# Altium schematic symbol library Cypress USB Controllers.SchLib: 169 symbols (part 9 of 15)
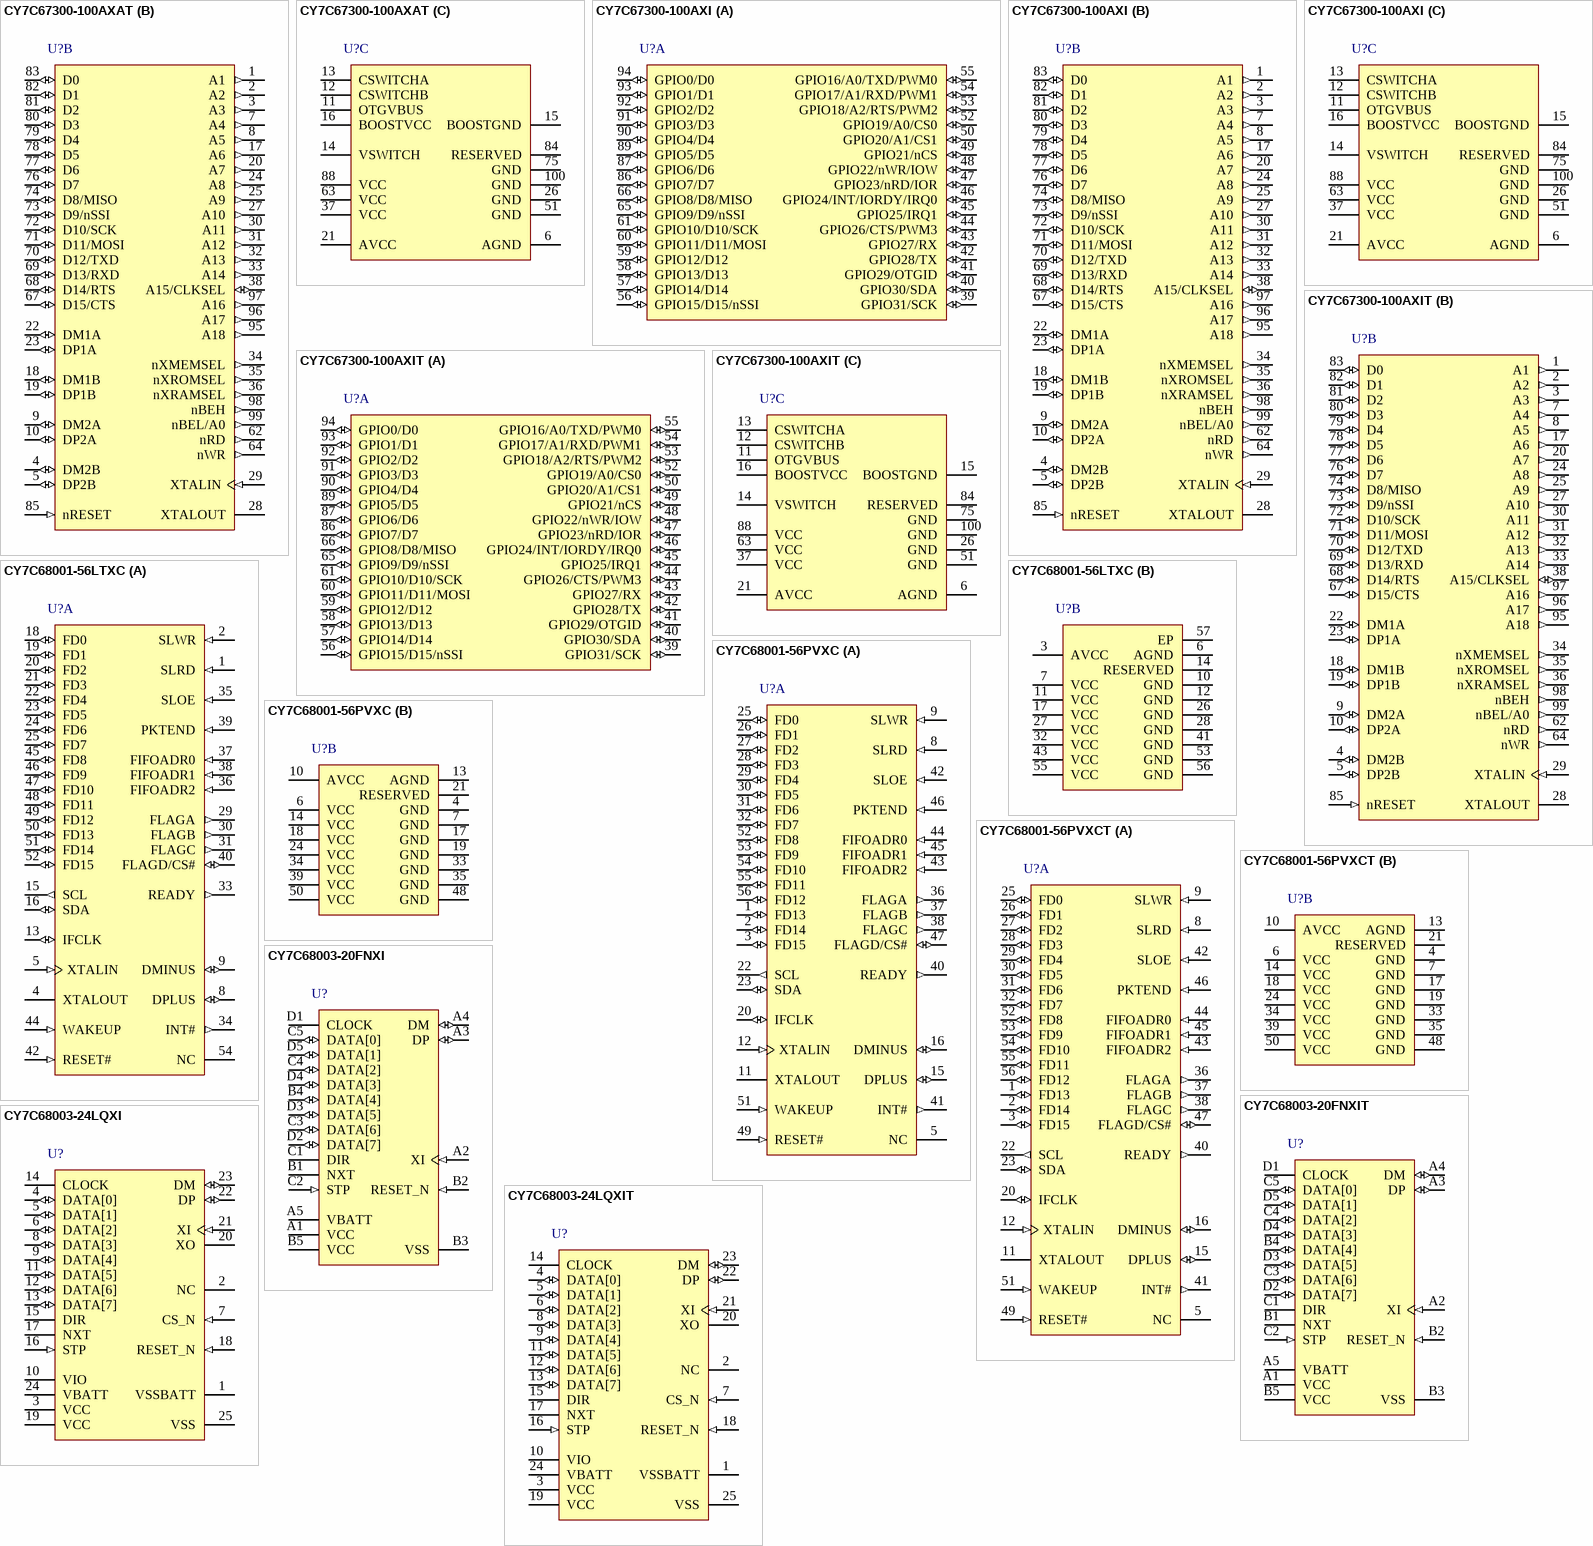
[diagram p30: symbols CY7C67300-100AXAT to CY7C68003-24LQXIT]

## CY7C68001-56PVXC
designator U?
EZ-USB SX2(TM) High Speed USB Interface Device, 3 to 3.6 V, 0 to 70 degC, 56-Pin SSOP (PVX56), Tube; Manufacturer: Cypress; PartNumber: CY7C68001-56PVXC; Max. Operating Voltage (V): 3.6; Min. Operating Voltage (V): 3; Populated: Yes; DatasheetVersion: Rev. *Q; PackageVersion: Rev. *F, 08/2012; PackageReference: PVX56; PackageDescription: 56-Pin Shrunk Small Outline Package, Body 7.506 x 18.415 mm, Pitch 0.635 mm; Supplier 1: Digi-Key; Supplier Part Number 1: 428-1864-ND; Max. Operating Temp. (degreesC): 70; Min. Operating Temp. (degreesC): 0; Packing: Tube; RoHS: Pb-Free; Mounting Technology: Surface Mount; ComponentLink1Description: Manufacturer URL; ComponentLink1URL: http://www.cypress.com/; ComponentLink2Description: Datasheet; ComponentLink2URL: http://www.cypress.com/?docID=47166; ComponentLink3Description: Package Specification; ComponentLink3URL: http://www.cypress.com/?docID=39259
footprint CYP-PVX56_N (SOP, 56-Leads, Body 18.415x7.506mm, Pitch 0.635mm , IPC Medium Density)
footprint CYP-PVX56_L (SOP, 56-Leads, Body 18.415x7.506mm, Pitch 0.635mm, IPC High Density)
footprint CYP-PVX56_M (SOP, 56-Leads, Body 18.415x7.506mm, Pitch 0.635mm, IPC Low Density)
part A pins: 1 FD13 (io) "FD[13] is the bidirectional FIFO data bus.", 2 FD14 (io) "FD[14] is the bidirectional FIFO data bus.", 3 FD15 (io) "FD[15] is the bidirectional FIFO data bus.", 5 NC "No Connect. This pin must be left unconnected.", 8 SLRD (in) "SLRD is the input-only read strobe with programmable polarity (POLAR.3) for the slave FIFOs connected to FD[7:0] or FD[15:0].", 9 SLWR (in) "SLWR is the input-only write strobe with programmable polarity (POLAR.2) for the slave FIFOs connected to FD[7:0] or FD[15:0].", 11 XTALOUT "Crystal Output. Connect this signal to a 24 MHz parallel-resonant, fundamental mode crystal and 20 pF capacitor to GND. If an external clock is used to drive XTALIN, leave this pin open.", 12 XTALIN (in) "Crystal Input. Connect this signal to a 24 MHz parallel-resonant, fundamental mode crystal and 20 pF capacitor to GND. It is also correct to drive XTALIN with an external 24 MHz square wave derived from another clock source.", 15 DPLUS (io) "USB D+ Signal. Connect to the USB D+ signal.", 16 DMINUS (io) "USB D- Signal. Connect to the USB D- signal.", 20 IFCLK (io) "Interface Clock, used for synchronously clocking data into or out of the slave FIFOs. IFCLK also serves as a timing reference for all slave FIFO control signals. When using the internal clock reference (IFCONFIG.7=1) the (See Datasheet)", 22 SCL (out) "I2C Clock. Connect to VCC with a 2.2 K-10 Kohm resistor, even if no I2C EEPROM is attached.", 23 SDA (io) "I2C Data. Connect to VCC with a 2.2K-10 Kohm resistor, even if no I2C EEPROM is attached.", 25 FD0 (io) "FD[0] is the bidirectional FIFO/Command data bus.", 26 FD1 (io) "FD[1] is the bidirectional FIFO/Command data bus.", 27 FD2 (io) "FD[2] is the bidirectional FIFO/Command data bus.", 28 FD3 (io) "FD[3] is the bidirectional FIFO/Command data bus.", 29 FD4 (io) "FD[4] is the bidirectional FIFO/Command data bus.", 30 FD5 (io) "FD[5] is the bidirectional FIFO/Command data bus.", 31 FD6 (io) "FD[6] is the bidirectional FIFO/Command data bus.", 32 FD7 (io) "FD[7] is the bidirectional FIFO/Command data bus.", 36 FLAGA (out) "FLAGA is a programmable slave-FIFO output status flag signal. Defaults to PF for the FIFO selected by the FIFOADR[2:0] pins.", 37 FLAGB (out) "FLAGB is a programmable slave-FIFO output status flag signal. Defaults to FULL for the FIFO selected by the FIFOADR[2:0] pins.", 38 FLAGC (out) "FLAGC is a programmable slave-FIFO output status flag signal. Defaults to EMPTY for the FIFO selected by the FIFOADR[2:0] pins.", 40 READY (out) "READY is an output-only ready that gates external command reads and writes. Active High.", 41 INT# (out) "INT# is an output-only external interrupt signal. Active Low.", 42 SLOE (in) "SLOE is an input-only output enable with programmable polarity (POLAR.4) for the slave FIFOs connected to FD[7:0] or FD[15:0].", 43 FIFOADR2 (in) "FIFOADR2 is an input-only address select for the slave FIFOs connected to FD[7:0] or FD[15:0].", 44 FIFOADR0 (in) "FIFOADR0 is an input-only address select for the slave FIFOs connected to FD[7:0] or FD[15:0].", 45 FIFOADR1 (in) "FIFOADR1 is an input-only address select for the slave FIFOs connected to FD[7:0] or FD[15:0].", 46 PKTEND (in) "PKTEND is an input-only packet end with programmable polarity (POLAR.5) for the slave FIFOs connected to FD[7:0] or FD[15:0].", 47 FLAGD/CS# (io) "FLAGD is a programmable slave-FIFO output status flag signal. CS# is a master chip select (default).", 49 RESET# (in) "Active LOW Reset. Resets the entire chip. This pin is normally tied to VCC through a 100-K resistor, and to GND through a 0.1-?F capacitor.", 51 WAKEUP (in) "USB Wakeup. If the SX2 is in suspend, asserting this pin starts up the oscillator and interrupts the SX2 to allow it to exit the suspend mode. During normal operation, holding WAKEUP asserted inhibits the SX2 chip from (See Datasheet)", 52 FD8 (io) "FD[8] is the bidirectional FIFO data bus.", 53 FD9 (io) "FD[9] is the bidirectional FIFO data bus.", 54 FD10 (io) "FD[10] is the bidirectional FIFO data bus.", 55 FD11 (io) "FD[11] is the bidirectional FIFO data bus.", 56 FD12 (io) "FD[12] is the bidirectional FIFO data bus."
part B pins: 4 GND (power) "Connect to ground.", 6 VCC (power) "VCC. Connect to 3.3 V power source.", 7 GND (power) "Connect to ground.", 10 AVCC (power) "Analog VCC. This signal provides power to the analog section of the chip.", 13 AGND (power) "Analog Ground. Connect to ground with as short a path as possible.", 14 VCC (power) "VCC. Connect to 3.3 V power source.", 17 GND (power) "Connect to ground.", 18 VCC (power) "VCC. Connect to 3.3 V power source.", 19 GND (power) "Connect to ground.", 21 RESERVED (power) "Reserved. Must be connected to ground.", 24 VCC (power) "VCC. Connect to 3.3 V power source.", 33 GND (power) "Connect to ground.", 34 VCC (power) "VCC. Connect to 3.3 V power source.", 35 GND (power) "Connect to ground.", 39 VCC (power) "VCC. Connect to 3.3 V power source.", 48 GND (power) "Connect to ground.", 50 VCC (power) "VCC. Connect to 3.3 V power source."

## CY7C68001-56PVXCT
designator U?
EZ-USB SX2(TM) High Speed USB Interface Device, 3 to 3.6 V, 0 to 70 degC, 56-Pin SSOP (PVX56), Tape and Reel; Manufacturer: Cypress; PartNumber: CY7C68001-56PVXCT; Max. Operating Voltage (V): 3.6; Min. Operating Voltage (V): 3; Populated: Yes; DatasheetVersion: Rev. *Q; PackageVersion: Rev. *F, 08/2012; PackageReference: PVX56; PackageDescription: 56-Pin Shrunk Small Outline Package, Body 7.506 x 18.415 mm, Pitch 0.635 mm; Supplier 1: Digi-Key; Supplier Part Number 1: CY7C68001-56PVXCT-ND; Max. Operating Temp. (degreesC): 70; Min. Operating Temp. (degreesC): 0; Packing: Tape and Reel; RoHS: Pb-Free; Mounting Technology: Surface Mount; ComponentLink1Description: Manufacturer URL; ComponentLink1URL: http://www.cypress.com/; ComponentLink2Description: Datasheet; ComponentLink2URL: http://www.cypress.com/?docID=47166; ComponentLink3Description: Package Specification; ComponentLink3URL: http://www.cypress.com/?docID=39259
footprint CYP-PVX56_N (SOP, 56-Leads, Body 18.415x7.506mm, Pitch 0.635mm , IPC Medium Density)
footprint CYP-PVX56_L (SOP, 56-Leads, Body 18.415x7.506mm, Pitch 0.635mm, IPC High Density)
footprint CYP-PVX56_M (SOP, 56-Leads, Body 18.415x7.506mm, Pitch 0.635mm, IPC Low Density)
part A pins: 1 FD13 (io) "FD[13] is the bidirectional FIFO data bus.", 2 FD14 (io) "FD[14] is the bidirectional FIFO data bus.", 3 FD15 (io) "FD[15] is the bidirectional FIFO data bus.", 5 NC "No Connect. This pin must be left unconnected.", 8 SLRD (in) "SLRD is the input-only read strobe with programmable polarity (POLAR.3) for the slave FIFOs connected to FD[7:0] or FD[15:0].", 9 SLWR (in) "SLWR is the input-only write strobe with programmable polarity (POLAR.2) for the slave FIFOs connected to FD[7:0] or FD[15:0].", 11 XTALOUT "Crystal Output. Connect this signal to a 24 MHz parallel-resonant, fundamental mode crystal and 20 pF capacitor to GND. If an external clock is used to drive XTALIN, leave this pin open.", 12 XTALIN (in) "Crystal Input. Connect this signal to a 24 MHz parallel-resonant, fundamental mode crystal and 20 pF capacitor to GND. It is also correct to drive XTALIN with an external 24 MHz square wave derived from another clock source.", 15 DPLUS (io) "USB D+ Signal. Connect to the USB D+ signal.", 16 DMINUS (io) "USB D- Signal. Connect to the USB D- signal.", 20 IFCLK (io) "Interface Clock, used for synchronously clocking data into or out of the slave FIFOs. IFCLK also serves as a timing reference for all slave FIFO control signals. When using the internal clock reference (IFCONFIG.7=1) the (See Datasheet)", 22 SCL (out) "I2C Clock. Connect to VCC with a 2.2 K-10 Kohm resistor, even if no I2C EEPROM is attached.", 23 SDA (io) "I2C Data. Connect to VCC with a 2.2K-10 Kohm resistor, even if no I2C EEPROM is attached.", 25 FD0 (io) "FD[0] is the bidirectional FIFO/Command data bus.", 26 FD1 (io) "FD[1] is the bidirectional FIFO/Command data bus.", 27 FD2 (io) "FD[2] is the bidirectional FIFO/Command data bus.", 28 FD3 (io) "FD[3] is the bidirectional FIFO/Command data bus.", 29 FD4 (io) "FD[4] is the bidirectional FIFO/Command data bus.", 30 FD5 (io) "FD[5] is the bidirectional FIFO/Command data bus.", 31 FD6 (io) "FD[6] is the bidirectional FIFO/Command data bus.", 32 FD7 (io) "FD[7] is the bidirectional FIFO/Command data bus.", 36 FLAGA (out) "FLAGA is a programmable slave-FIFO output status flag signal. Defaults to PF for the FIFO selected by the FIFOADR[2:0] pins.", 37 FLAGB (out) "FLAGB is a programmable slave-FIFO output status flag signal. Defaults to FULL for the FIFO selected by the FIFOADR[2:0] pins.", 38 FLAGC (out) "FLAGC is a programmable slave-FIFO output status flag signal. Defaults to EMPTY for the FIFO selected by the FIFOADR[2:0] pins.", 40 READY (out) "READY is an output-only ready that gates external command reads and writes. Active High.", 41 INT# (out) "INT# is an output-only external interrupt signal. Active Low.", 42 SLOE (in) "SLOE is an input-only output enable with programmable polarity (POLAR.4) for the slave FIFOs connected to FD[7:0] or FD[15:0].", 43 FIFOADR2 (in) "FIFOADR2 is an input-only address select for the slave FIFOs connected to FD[7:0] or FD[15:0].", 44 FIFOADR0 (in) "FIFOADR0 is an input-only address select for the slave FIFOs connected to FD[7:0] or FD[15:0].", 45 FIFOADR1 (in) "FIFOADR1 is an input-only address select for the slave FIFOs connected to FD[7:0] or FD[15:0].", 46 PKTEND (in) "PKTEND is an input-only packet end with programmable polarity (POLAR.5) for the slave FIFOs connected to FD[7:0] or FD[15:0].", 47 FLAGD/CS# (io) "FLAGD is a programmable slave-FIFO output status flag signal. CS# is a master chip select (default).", 49 RESET# (in) "Active LOW Reset. Resets the entire chip. This pin is normally tied to VCC through a 100-K resistor, and to GND through a 0.1-?F capacitor.", 51 WAKEUP (in) "USB Wakeup. If the SX2 is in suspend, asserting this pin starts up the oscillator and interrupts the SX2 to allow it to exit the suspend mode. During normal operation, holding WAKEUP asserted inhibits the SX2 chip from (See Datasheet)", 52 FD8 (io) "FD[8] is the bidirectional FIFO data bus.", 53 FD9 (io) "FD[9] is the bidirectional FIFO data bus.", 54 FD10 (io) "FD[10] is the bidirectional FIFO data bus.", 55 FD11 (io) "FD[11] is the bidirectional FIFO data bus.", 56 FD12 (io) "FD[12] is the bidirectional FIFO data bus."
part B pins: 4 GND (power) "Connect to ground.", 6 VCC (power) "VCC. Connect to 3.3 V power source.", 7 GND (power) "Connect to ground.", 10 AVCC (power) "Analog VCC. This signal provides power to the analog section of the chip.", 13 AGND (power) "Analog Ground. Connect to ground with as short a path as possible.", 14 VCC (power) "VCC. Connect to 3.3 V power source.", 17 GND (power) "Connect to ground.", 18 VCC (power) "VCC. Connect to 3.3 V power source.", 19 GND (power) "Connect to ground.", 21 RESERVED (power) "Reserved. Must be connected to ground.", 24 VCC (power) "VCC. Connect to 3.3 V power source.", 33 GND (power) "Connect to ground.", 34 VCC (power) "VCC. Connect to 3.3 V power source.", 35 GND (power) "Connect to ground.", 39 VCC (power) "VCC. Connect to 3.3 V power source.", 48 GND (power) "Connect to ground.", 50 VCC (power) "VCC. Connect to 3.3 V power source."

## CY7C68003-20FNXI
designator U?
MoBL-USB(TM) TX2UL USB 2.0 ULPI Transceiver, 1.8 to 3.3 V, -40 to 85 degC, 20-Pin WLCSP (FNX20), Tray; Manufacturer: Cypress; PartNumber: CY7C68003-20FNXI; Max. Operating Voltage (V): 3.3; Min. Operating Voltage (V): 1.8; Populated: Yes; DatasheetVersion: Rev. *M; PackageVersion: Rev. *C; PackageReference: FNX20; PackageDescription: 20-Ball WLCSP, Body 2.137 x 1.761 mm, Pitch 0.4 mm; Supplier 1: Digi-Key; Supplier Part Number 1: CY7C68003-20FNXI-ND; Max. Operating Temp. (degreesC): 85; Min. Operating Temp. (degreesC): -40; Packing: Tray; RoHS: Pb-Free; Mounting Technology: Surface Mount; Code_JEDEC: Publication 95; ComponentLink1Description: Manufacturer URL; ComponentLink1URL: http://www.cypress.com/; ComponentLink2Description: Datasheet; ComponentLink2URL: http://www.cypress.com/?docID=48080; ComponentLink3Description: Package Specification; ComponentLink3URL: http://www.cypress.com/?docID=48080
footprint CYP-FNX20 (BGA, 20-Balls, Body 2.14x1.76mm, Pitch 0.4mm)
pins: A1 VCC (power) "Low voltage supply for the digital core and I/O", A2 XI (in) "LVCMOS single ended clock of frequency 13, 19.2, 24, or 26 MHz", A3 DP (io) "USB D-plus signal", A4 DM (io) "USB D-minus signal", A5 VBATT (power) "High voltage supply for USB", B1 NXT (hiz) "ULPI next signal", B2 RESET_N (in) "Global reset. When RESET_N is asserted during the VCC power on, TX2UL enters  configuration mode. During normal operation mode, asserting RESET_N resets the  TX2UL and enter into the power saving mode.", B3 VSS (power) "Common ground", B4 DATA[4] (io) "ULPI data to/from link", B5 VCC (power) "Low voltage supply for the digital core and I/O", C1 DIR (hiz) "ULPI direction", C2 STP (in) "ULPI stop signal", C3 DATA[6] (io) "ULPI data to/from link", C4 DATA[2] (io) "ULPI data to/from link", C5 DATA[0] (io) "ULPI data to/from link", D1 CLOCK (hiz) "ULPI clock", D2 DATA[7] (io) "ULPI data to/from link", D3 DATA[5] (io) "ULPI data to/from link", D4 DATA[3] (io) "ULPI data to/from link", D5 DATA[1] (io) "ULPI data to/from link"

## CY7C68003-20FNXIT
designator U?
MoBL-USB(TM) TX2UL USB 2.0 ULPI Transceiver, 1.8 to 3.3 V, -40 to 85 degC, 20-Pin WLCSP (FNX20), Tape and Reel; Manufacturer: Cypress; PartNumber: CY7C68003-20FNXIT; Max. Operating Voltage (V): 3.3; Min. Operating Voltage (V): 1.8; Populated: Yes; DatasheetVersion: Rev. *M; PackageVersion: Rev. *C; PackageReference: FNX20; PackageDescription: 20-Ball WLCSP, Body 2.137 x 1.761 mm, Pitch 0.4 mm; Supplier 1: Digi-Key; Supplier Part Number 1: CY7C68003-20FNXIT-ND; Max. Operating Temp. (degreesC): 85; Min. Operating Temp. (degreesC): -40; Packing: Tape and Reel; RoHS: Pb-Free; Mounting Technology: Surface Mount; Code_JEDEC: Publication 95; ComponentLink1Description: Manufacturer URL; ComponentLink1URL: http://www.cypress.com/; ComponentLink2Description: Datasheet; ComponentLink2URL: http://www.cypress.com/?docID=48080; ComponentLink3Description: Package Specification; ComponentLink3URL: http://www.cypress.com/?docID=48080
footprint CYP-FNX20 (BGA, 20-Balls, Body 2.14x1.76mm, Pitch 0.4mm)
pins: A1 VCC (power) "Low voltage supply for the digital core and I/O", A2 XI (in) "LVCMOS single ended clock of frequency 13, 19.2, 24, or 26 MHz", A3 DP (io) "USB D-plus signal", A4 DM (io) "USB D-minus signal", A5 VBATT (power) "High voltage supply for USB", B1 NXT (hiz) "ULPI next signal", B2 RESET_N (in) "Global reset. When RESET_N is asserted during the VCC power on, TX2UL enters  configuration mode. During normal operation mode, asserting RESET_N resets the  TX2UL and enter into the power saving mode.", B3 VSS (power) "Common ground", B4 DATA[4] (io) "ULPI data to/from link", B5 VCC (power) "Low voltage supply for the digital core and I/O", C1 DIR (hiz) "ULPI direction", C2 STP (in) "ULPI stop signal", C3 DATA[6] (io) "ULPI data to/from link", C4 DATA[2] (io) "ULPI data to/from link", C5 DATA[0] (io) "ULPI data to/from link", D1 CLOCK (hiz) "ULPI clock", D2 DATA[7] (io) "ULPI data to/from link", D3 DATA[5] (io) "ULPI data to/from link", D4 DATA[3] (io) "ULPI data to/from link", D5 DATA[1] (io) "ULPI data to/from link"

## CY7C68003-24LQXI
designator U?
MoBL-USB(TM) TX2UL USB 2.0 ULPI Transceiver, 1.8 to 3.3 V, -40 to 85 degC, 24-Pin QFN (LQX24), Tray; Manufacturer: Cypress; PartNumber: CY7C68003-24LQXI; Max. Operating Voltage (V): 3.3; Min. Operating Voltage (V): 1.8; Populated: Yes; DatasheetVersion: Rev. *M; PackageVersion: Rev. *E; PackageReference: LQX24; PackageDescription: 24-Pin QFN (4 x 4 x 0.55 mm) LQ24A 2.65 x 2.65 E-Pad (Sawn); Supplier 1: Digi-Key; Supplier Part Number 1: CY7C68003-24LQXI-ND; Max. Operating Temp. (degreesC): 85; Min. Operating Temp. (degreesC): -40; Packing: Tray; RoHS: Pb-Free; Mounting Technology: Surface Mount; Code_JEDEC: MO-248; ComponentLink1Description: Manufacturer URL; ComponentLink1URL: http://www.cypress.com/; ComponentLink2Description: Datasheet; ComponentLink2URL: http://www.cypress.com/?docID=48080; ComponentLink3Description: Package Specification; ComponentLink3URL: http://www.cypress.com/?docID=40402
footprint CYP-LQX24_N (QFN, 24-Leads, Body 4x4mm, Pitch 0.5mm, Thermal Pad 2.65x2.65mm, IPC Medium Density)
footprint CYP-LQX24_L (QFN, 24-Leads, Body 4x4mm, Pitch 0.5mm, Thermal Pad 2.65x2.65mm, IPC High Density)
footprint CYP-LQX24_M (QFN, 24-Leads, Body 4x4mm, Pitch 0.5mm, Thermal Pad 2.65x2.65mm, IPC Low Density)
pins: 1 VSSBATT (power) "USB ground", 2 NC "No connect", 3 VCC (power) "Low voltage supply for the digital core", 4 DATA[0] (io) "ULPI data to/from link", 5 DATA[1] (io) "ULPI data to/from link", 6 DATA[2] (io) "ULPI data to/from link", 7 CS_N (in) "When CS_N is de-asserted, all pins at ULPI interface are tristated", 8 DATA[3] (io) "ULPI data to/from link", 9 DATA[4] (io) "ULPI data to/from link", 10 VIO (power) "Power for multi-range I/Os", 11 DATA[5] (io) "ULPI data to/from link", 12 DATA[6] (io) "ULPI data to/from link", 13 DATA[7] (io) "ULPI data to/from link", 14 CLOCK (hiz) "ULPI clock", 15 DIR (hiz) "ULPI direction", 16 STP (in) "ULPI stop signal", 17 NXT (hiz) "ULPI next signal", 18 RESET_N (in) "Device chip global reset. When RESET_N is asserted, TX2UL is in reset and enters into the power saving mode.", 19 VCC (power) "Low voltage supply for the digital core", 20 XO "Crystal", 21 XI (in) "Crystal or LVCMOS single ended clock of frequency 13, 19.2, 24, or 26 MHz", 22 DP (io) "USB D-plus signal", 23 DM (io) "USB D-minus signal", 24 VBATT (power) "High voltage supply for USB", 25 VSS (power) "Digital ground (core and I/O)"

## CY7C68003-24LQXIT
designator U?
MoBL-USB(TM) TX2UL USB 2.0 ULPI Transceiver, 1.8 to 3.3 V, -40 to 85 degC, 24-Pin QFN (LQX24), Tape and Reel; Manufacturer: Cypress; PartNumber: CY7C68003-24LQXIT; Max. Operating Voltage (V): 3.3; Min. Operating Voltage (V): 1.8; Populated: Yes; DatasheetVersion: Rev. *M; PackageVersion: Rev. *E; PackageReference: LQX24; PackageDescription: 24-Pin QFN (4 x 4 x 0.55 mm) LQ24A 2.65 x 2.65 E-Pad (Sawn); Supplier 1: Digi-Key; Supplier Part Number 1: CY7C68003-24LQXIT-ND; Max. Operating Temp. (degreesC): 85; Min. Operating Temp. (degreesC): -40; Packing: Tape and Reel; RoHS: Pb-Free; Mounting Technology: Surface Mount; Code_JEDEC: MO-248; ComponentLink1Description: Manufacturer URL; ComponentLink1URL: http://www.cypress.com/; ComponentLink2Description: Datasheet; ComponentLink2URL: http://www.cypress.com/?docID=48080; ComponentLink3Description: Package Specification; ComponentLink3URL: http://www.cypress.com/?docID=40402
footprint CYP-LQX24_N (QFN, 24-Leads, Body 4x4mm, Pitch 0.5mm, Thermal Pad 2.65x2.65mm, IPC Medium Density)
footprint CYP-LQX24_L (QFN, 24-Leads, Body 4x4mm, Pitch 0.5mm, Thermal Pad 2.65x2.65mm, IPC High Density)
footprint CYP-LQX24_M (QFN, 24-Leads, Body 4x4mm, Pitch 0.5mm, Thermal Pad 2.65x2.65mm, IPC Low Density)
pins: 1 VSSBATT (power) "USB ground", 2 NC "No connect", 3 VCC (power) "Low voltage supply for the digital core", 4 DATA[0] (io) "ULPI data to/from link", 5 DATA[1] (io) "ULPI data to/from link", 6 DATA[2] (io) "ULPI data to/from link", 7 CS_N (in) "When CS_N is de-asserted, all pins at ULPI interface are tristated", 8 DATA[3] (io) "ULPI data to/from link", 9 DATA[4] (io) "ULPI data to/from link", 10 VIO (power) "Power for multi-range I/Os", 11 DATA[5] (io) "ULPI data to/from link", 12 DATA[6] (io) "ULPI data to/from link", 13 DATA[7] (io) "ULPI data to/from link", 14 CLOCK (hiz) "ULPI clock", 15 DIR (hiz) "ULPI direction", 16 STP (in) "ULPI stop signal", 17 NXT (hiz) "ULPI next signal", 18 RESET_N (in) "Device chip global reset. When RESET_N is asserted, TX2UL is in reset and enters into the power saving mode.", 19 VCC (power) "Low voltage supply for the digital core", 20 XO "Crystal", 21 XI (in) "Crystal or LVCMOS single ended clock of frequency 13, 19.2, 24, or 26 MHz", 22 DP (io) "USB D-plus signal", 23 DM (io) "USB D-minus signal", 24 VBATT (power) "High voltage supply for USB", 25 VSS (power) "Digital ground (core and I/O)"

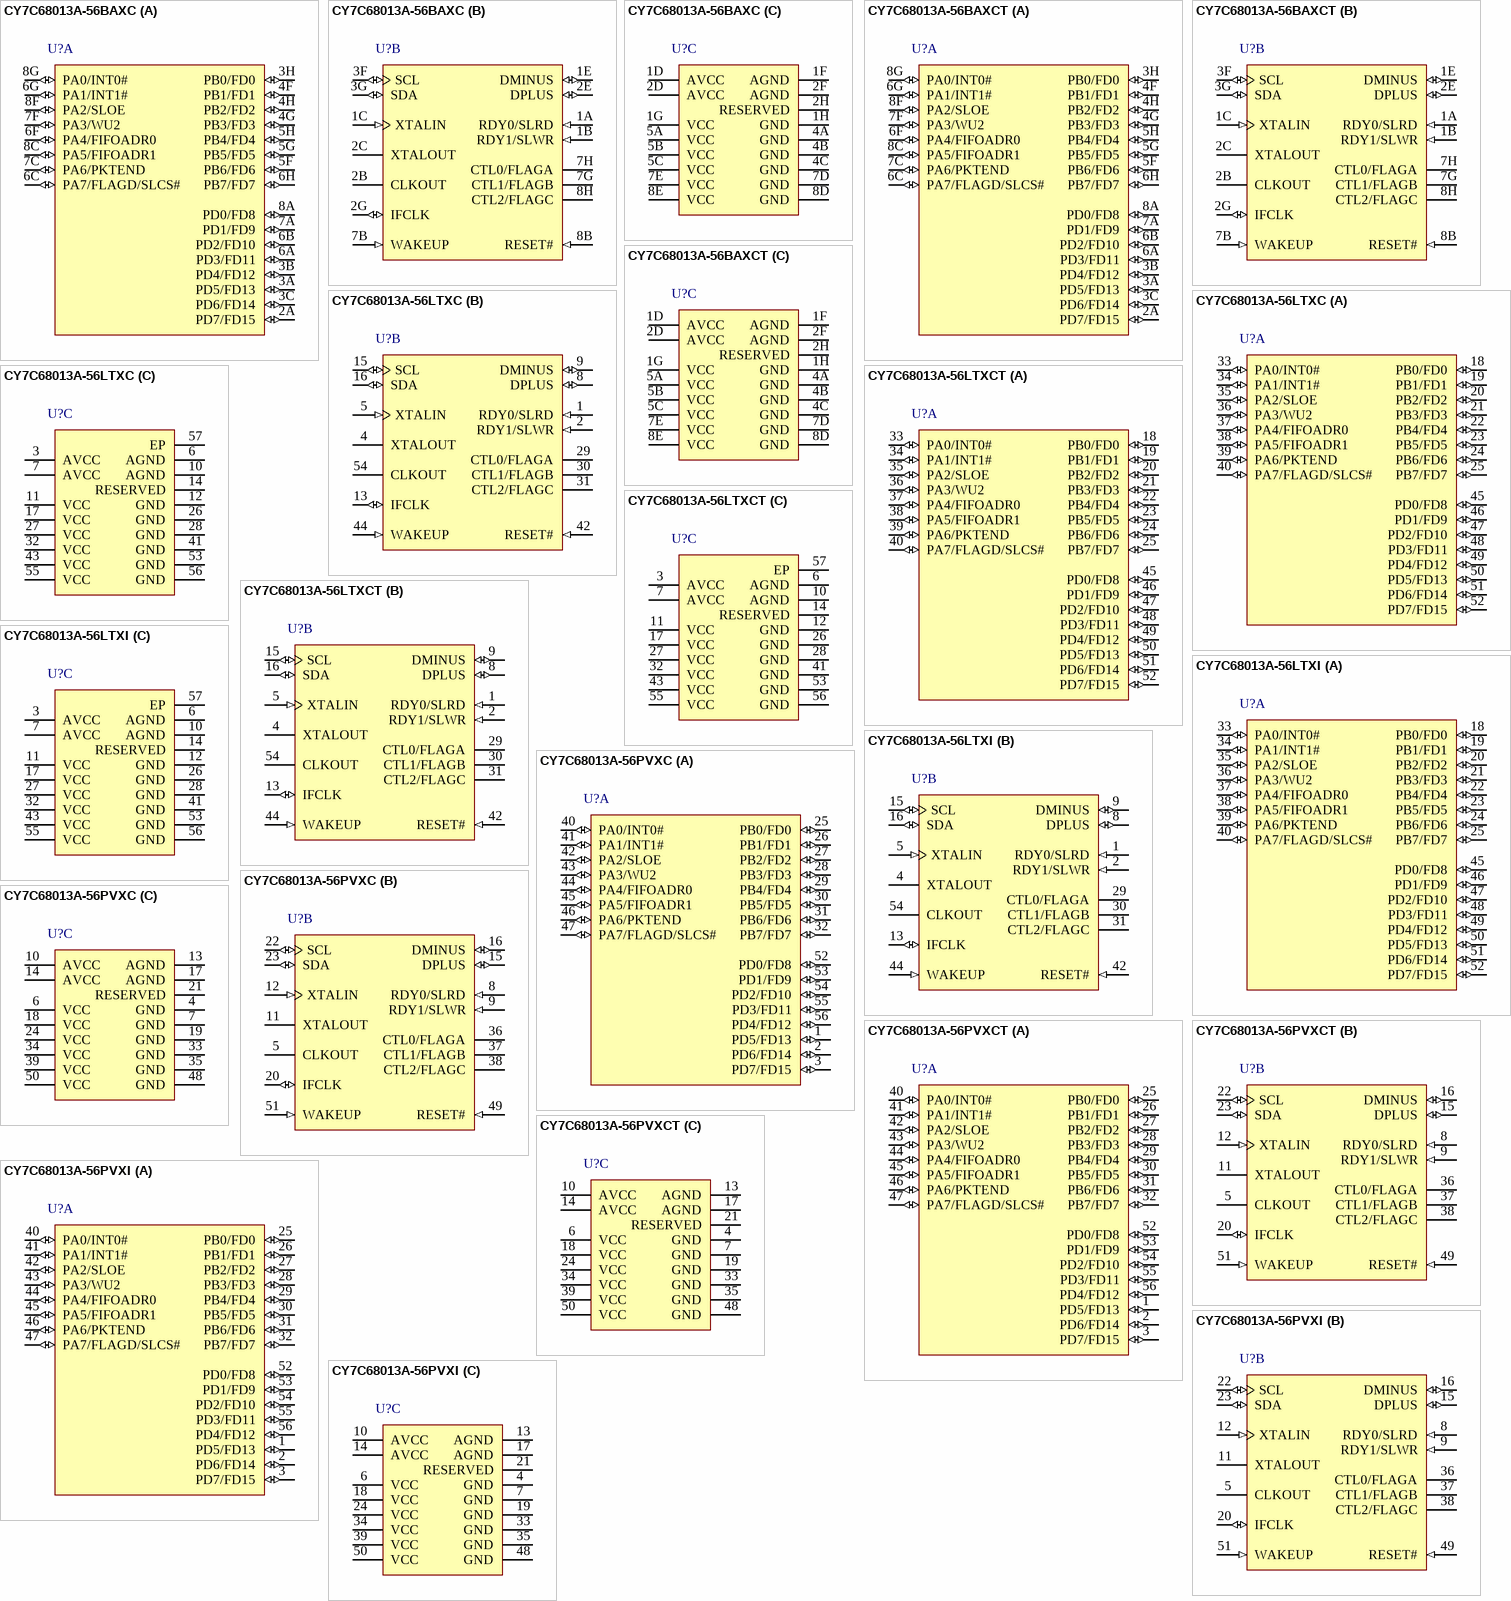
[diagram p9: symbols CY7C68013A-56BAXC to CY7C68013A-56PVXI]

## CY7C68013A-56BAXC
designator U?
EZ-USB(R) FX2LP(TM) USB Microcontroller High-Speed USB Peripheral Controller, 16 KB, 24 I/Os, 3 to 3.6 V, 0 to 70 degC, 56-Pin VFBGA (BAX56), Tray; Manufacturer: Cypress; PartNumber: CY7C68013A-56BAXC; Max. Operating Voltage (V): 3.6; Memory Architecture: RAM; Memory Size (KB): 16; Min. Operating Voltage (V): 3; No. of I/Os: 24; Populated: Yes; DatasheetVersion: Rev. *W; PackageVersion: Rev. *B, 09/2005; PackageReference: BAX56; PackageDescription: 56-Ball FBGA, Body 5 x 5 mm, Pitch 0.5 mm; Supplier 1: Digi-Key; Supplier Part Number 1: 428-2264-ND; CPU Core: Enhanced 8051; Max. Operating Temp. (degreesC): 70; Min. Operating Temp. (degreesC): 0; Packing: Tray; RoHS: Pb-Free; Mounting Technology: Surface Mount; Code_JEDEC: MO-195C; ComponentLink1Description: Manufacturer URL; ComponentLink1URL: http://www.cypress.com/; ComponentLink2Description: Datasheet; ComponentLink2URL: http://www.cypress.com/?docID=45142; ComponentLink3Description: Package Specification; ComponentLink3URL: http://www.cypress.com/?docID=1010
footprint CYP-BAX56 (BGA, 56-Balls, Body 5x5mm, Pitch 0.5mm)
part A pins: 2A PD7/FD15 (io), 3A PD5/FD13 (io), 3B PD4/FD12 (io), 3C PD6/FD14 (io), 3H PB0/FD0 (io), 4F PB1/FD1 (io), 4G PB3/FD3 (io), 4H PB2/FD2 (io), 5F PB6/FD6 (io), 5G PB5/FD5 (io), 5H PB4/FD4 (io), 6A PD3/FD11 (io), 6B PD2/FD10 (io), 6C PA7/FLAGD/SLCS# (io), 6F PA4/FIFOADR0 (io), 6G PA1/INT1# (io), 6H PB7/FD7 (io), 7A PD1/FD9 (io), 7C PA6/PKTEND (io), 7F PA3/WU2 (io), 8A PD0/FD8 (io), 8C PA5/FIFOADR1 (io), 8F PA2/SLOE (io), 8G PA0/INT0# (io)
part B pins: 1A RDY0/SLRD (in), 1B RDY1/SLWR (in), 1C XTALIN (in) "Crystal Input. Connect this signal to a 24 MHz parallel-resonant, fundamental mode crystal and load capacitor to GND. It is also correct to drive XTALIN with an external 24-MHz square wave derived from another clock source. (See Datasheet)", 1E DMINUS (io) "USB D- Signal. Connect to the USB D- signal.", 2B CLKOUT (hiz) "12-, 24- or 48 MHz clock, phase locked to the 24 MHz input clock. The 8051 defaults to 12 MHz operation. The 8051 may three-state this output by setting CPUCS.1 = 1.", 2C XTALOUT "Crystal Output. Connect this signal to a 24 MHz parallel-resonant, fundamental mode crystal and load capacitor to GND.If an external clock is used to drive XTALIN, leave this pin open.", 2E DPLUS (io) "USB D+ Signal. Connect to the USB D+ signal", 2G IFCLK (io) "Interface Clock, used for synchronously clocking data into or out of the slave FIFOs. IFCLK also serves as a timing reference for all slave FIFO control signals and GPIF. When internal clocking is used (IFCONFIG.7 = 1) the (See Datasheet)", 3F SCL (io) "Clock for the I2C interface. Connect to VCC with a 2.2K resistor, even if no I2C peripheral is attached.", 3G SDA (io) "Data for I2C compatible interface. Connect to VCC with a 2.2K resistor, even if no I2C compatible peripheral is attached.", 7B WAKEUP (in), 7G CTL1/FLAGB (hiz), 7H CTL0/FLAGA (hiz), 8B RESET# (in) "Active LOW Reset. Resets the entire chip. See section 2.9 ”Reset and Wakeup?on page 8 for more details.", 8H CTL2/FLAGC (hiz)
part C pins: 1D AVCC (power) "Analog VCC. Connect this pin to 3.3V power source. This signal provides power to the analog section of the chip.", 1F AGND (power) "Analog Ground. Connect to ground with as short a path as possible.", 1G VCC (power) "VCC. Connect to 3.3 V power source.", 1H GND (power) "Ground.", 2D AVCC (power) "Analog VCC. Connect this pin to 3.3V power source. This signal provides power to the analog section of the chip.", 2F AGND (power) "Analog Ground. Connect to ground with as short a path as possible.", 2H RESERVED (power) "Reserved. Connect to ground.", 4A GND (power) "Ground.", 4B GND (power) "Ground.", 4C GND (power) "Ground.", 5A VCC (power) "VCC. Connect to 3.3 V power source.", 5B VCC (power) "VCC. Connect to 3.3 V power source.", 5C VCC (power) "VCC. Connect to 3.3 V power source.", 7D GND (power) "Ground.", 7E VCC (power) "VCC. Connect to 3.3 V power source.", 8D GND (power) "Ground.", 8E VCC (power) "VCC. Connect to 3.3 V power source."

## CY7C68013A-56BAXCT
designator U?
EZ-USB(R) FX2LP(TM) USB Microcontroller High-Speed USB Peripheral Controller, 16 KB, 24 I/Os, 3 to 3.6 V, 0 to 70 degC, 56-Pin VFBGA (BAX56), Tape and Reel; Manufacturer: Cypress; PartNumber: CY7C68013A-56BAXCT; Max. Operating Voltage (V): 3.6; Memory Architecture: RAM; Memory Size (KB): 16; Min. Operating Voltage (V): 3; No. of I/Os: 24; Populated: Yes; DatasheetVersion: Rev. *W; PackageVersion: Rev. *B, 09/2005; PackageReference: BAX56; PackageDescription: 56-Ball FBGA, Body 5 x 5 mm, Pitch 0.5 mm; Supplier 1: Digi-Key; Supplier Part Number 1: CY7C68013A-56BAXCT-ND; CPU Core: Enhanced 8051; Max. Operating Temp. (degreesC): 70; Min. Operating Temp. (degreesC): 0; Packing: Tape and Reel; RoHS: Pb-Free; Mounting Technology: Surface Mount; Code_JEDEC: MO-195C; ComponentLink1Description: Manufacturer URL; ComponentLink1URL: http://www.cypress.com/; ComponentLink2Description: Datasheet; ComponentLink2URL: http://www.cypress.com/?docID=45142; ComponentLink3Description: Package Specification; ComponentLink3URL: http://www.cypress.com/?docID=1010
footprint CYP-BAX56 (BGA, 56-Balls, Body 5x5mm, Pitch 0.5mm)
part A pins: 2A PD7/FD15 (io), 3A PD5/FD13 (io), 3B PD4/FD12 (io), 3C PD6/FD14 (io), 3H PB0/FD0 (io), 4F PB1/FD1 (io), 4G PB3/FD3 (io), 4H PB2/FD2 (io), 5F PB6/FD6 (io), 5G PB5/FD5 (io), 5H PB4/FD4 (io), 6A PD3/FD11 (io), 6B PD2/FD10 (io), 6C PA7/FLAGD/SLCS# (io), 6F PA4/FIFOADR0 (io), 6G PA1/INT1# (io), 6H PB7/FD7 (io), 7A PD1/FD9 (io), 7C PA6/PKTEND (io), 7F PA3/WU2 (io), 8A PD0/FD8 (io), 8C PA5/FIFOADR1 (io), 8F PA2/SLOE (io), 8G PA0/INT0# (io)
part B pins: 1A RDY0/SLRD (in), 1B RDY1/SLWR (in), 1C XTALIN (in) "Crystal Input. Connect this signal to a 24 MHz parallel-resonant, fundamental mode crystal and load capacitor to GND. It is also correct to drive XTALIN with an external 24-MHz square wave derived from another clock source. (See Datasheet)", 1E DMINUS (io) "USB D- Signal. Connect to the USB D- signal.", 2B CLKOUT (hiz) "12-, 24- or 48 MHz clock, phase locked to the 24 MHz input clock. The 8051 defaults to 12 MHz operation. The 8051 may three-state this output by setting CPUCS.1 = 1.", 2C XTALOUT "Crystal Output. Connect this signal to a 24 MHz parallel-resonant, fundamental mode crystal and load capacitor to GND.If an external clock is used to drive XTALIN, leave this pin open.", 2E DPLUS (io) "USB D+ Signal. Connect to the USB D+ signal", 2G IFCLK (io) "Interface Clock, used for synchronously clocking data into or out of the slave FIFOs. IFCLK also serves as a timing reference for all slave FIFO control signals and GPIF. When internal clocking is used (IFCONFIG.7 = 1) the (See Datasheet)", 3F SCL (io) "Clock for the I2C interface. Connect to VCC with a 2.2K resistor, even if no I2C peripheral is attached.", 3G SDA (io) "Data for I2C compatible interface. Connect to VCC with a 2.2K resistor, even if no I2C compatible peripheral is attached.", 7B WAKEUP (in), 7G CTL1/FLAGB (hiz), 7H CTL0/FLAGA (hiz), 8B RESET# (in) "Active LOW Reset. Resets the entire chip. See section 2.9 ”Reset and Wakeup?on page 8 for more details.", 8H CTL2/FLAGC (hiz)
part C pins: 1D AVCC (power) "Analog VCC. Connect this pin to 3.3V power source. This signal provides power to the analog section of the chip.", 1F AGND (power) "Analog Ground. Connect to ground with as short a path as possible.", 1G VCC (power) "VCC. Connect to 3.3 V power source.", 1H GND (power) "Ground.", 2D AVCC (power) "Analog VCC. Connect this pin to 3.3V power source. This signal provides power to the analog section of the chip.", 2F AGND (power) "Analog Ground. Connect to ground with as short a path as possible.", 2H RESERVED (power) "Reserved. Connect to ground.", 4A GND (power) "Ground.", 4B GND (power) "Ground.", 4C GND (power) "Ground.", 5A VCC (power) "VCC. Connect to 3.3 V power source.", 5B VCC (power) "VCC. Connect to 3.3 V power source.", 5C VCC (power) "VCC. Connect to 3.3 V power source.", 7D GND (power) "Ground.", 7E VCC (power) "VCC. Connect to 3.3 V power source.", 8D GND (power) "Ground.", 8E VCC (power) "VCC. Connect to 3.3 V power source."

## CY7C68013A-56LTXC
designator U?
EZ-USB(R) FX2LP(TM) USB Microcontroller High-Speed USB Peripheral Controller, 16 KB, 24 I/Os, 3 to 3.6 V, 0 to 70 degC, 56-Pin QFN (LTX56), Tray; Manufacturer: Cypress; PartNumber: CY7C68013A-56LTXC; Max. Operating Voltage (V): 3.6; Memory Architecture: RAM; Memory Size (KB): 16; Min. Operating Voltage (V): 3; No. of I/Os: 24; Populated: Yes; DatasheetVersion: Rev. *W; PackageVersion: Rev. *D; PackageReference: LTX56; PackageDescription: 56-Pin Sawn QFN, Body 8 x 8 mm, Pitch 0.5 mm; Supplier 1: Digi-Key; Supplier Part Number 1: 428-2933-ND; CPU Core: Enhanced 8051; Max. Operating Temp. (degreesC): 70; Min. Operating Temp. (degreesC): 0; Packing: Tray; RoHS: Pb-Free; Mounting Technology: Surface Mount; Code_JEDEC: MO-220; ComponentLink1Description: Manufacturer URL; ComponentLink1URL: http://www.cypress.com/; ComponentLink2Description: Datasheet; ComponentLink2URL: http://www.cypress.com/?docID=45142; ComponentLink3Description: Package Specification; ComponentLink3URL: http://www.cypress.com/?docID=47572
footprint CYP-LTX56-5200X4500TP_N (QFN, 56-Leads, Body 8.1x8.1mm, Pitch 0.5mm, Thermal Pad 5.2x4.5mm, IPC Medium Density)
footprint CYP-LTX56-5200X4500TP_L (QFN, 56-Leads, Body 8.1x8.1mm, Pitch 0.5mm, Thermal Pad 5.2x4.5mm, IPC High Density)
footprint CYP-LTX56-5200X4500TP_M (QFN, 56-Leads, Body 8.1x8.1mm, Pitch 0.5mm, Thermal Pad 5.2x4.5mm, IPC Low Density)
part A pins: 18 PB0/FD0 (io), 19 PB1/FD1 (io), 20 PB2/FD2 (io), 21 PB3/FD3 (io), 22 PB4/FD4 (io), 23 PB5/FD5 (io), 24 PB6/FD6 (io), 25 PB7/FD7 (io), 33 PA0/INT0# (io), 34 PA1/INT1# (io), 35 PA2/SLOE (io), 36 PA3/WU2 (io), 37 PA4/FIFOADR0 (io), 38 PA5/FIFOADR1 (io), 39 PA6/PKTEND (io), 40 PA7/FLAGD/SLCS# (io), 45 PD0/FD8 (io), 46 PD1/FD9 (io), 47 PD2/FD10 (io), 48 PD3/FD11 (io), 49 PD4/FD12 (io), 50 PD5/FD13 (io), 51 PD6/FD14 (io), 52 PD7/FD15 (io)
part B pins: 1 RDY0/SLRD (in), 2 RDY1/SLWR (in), 4 XTALOUT "Crystal Output. Connect this signal to a 24 MHz parallel-resonant, fundamental mode crystal and load capacitor to GND.If an external clock is used to drive XTALIN, leave this pin open.", 5 XTALIN (in) "Crystal Input. Connect this signal to a 24 MHz parallel-resonant, fundamental mode crystal and load capacitor to GND. It is also correct to drive XTALIN with an external 24-MHz square wave derived from another clock source. (See Datasheet)", 8 DPLUS (io) "USB D+ Signal. Connect to the USB D+ signal", 9 DMINUS (io) "USB D- Signal. Connect to the USB D- signal.", 13 IFCLK (io) "Interface Clock, used for synchronously clocking data into or out of the slave FIFOs. IFCLK also serves as a timing reference for all slave FIFO control signals and GPIF. When internal clocking is used (IFCONFIG.7 = 1) the (See Datasheet)", 15 SCL (io) "Clock for the I2C interface. Connect to VCC with a 2.2K resistor, even if no I2C peripheral is attached.", 16 SDA (io) "Data for I2C compatible interface. Connect to VCC with a 2.2K resistor, even if no I2C compatible peripheral is attached.", 29 CTL0/FLAGA (hiz), 30 CTL1/FLAGB (hiz), 31 CTL2/FLAGC (hiz), 42 RESET# (in) "Active LOW Reset. Resets the entire chip. See section 2.9 ”Reset and Wakeup?on page 8 for more details.", 44 WAKEUP (in), 54 CLKOUT (hiz) "12-, 24- or 48 MHz clock, phase locked to the 24 MHz input clock. The 8051 defaults to 12 MHz operation. The 8051 may three-state this output by setting CPUCS.1 = 1."
part C pins: 3 AVCC (power) "Analog VCC. Connect this pin to 3.3V power source. This signal provides power to the analog section of the chip.", 6 AGND (power) "Analog Ground. Connect to ground with as short a path as possible.", 7 AVCC (power) "Analog VCC. Connect this pin to 3.3V power source. This signal provides power to the analog section of the chip.", 10 AGND (power) "Analog Ground. Connect to ground with as short a path as possible.", 11 VCC (power) "VCC. Connect to 3.3 V power source.", 12 GND (power) "Ground.", 14 RESERVED (power) "Reserved. Connect to ground.", 17 VCC (power) "VCC. Connect to 3.3 V power source.", 26 GND (power) "Ground.", 27 VCC (power) "VCC. Connect to 3.3 V power source.", 28 GND (power) "Ground.", 32 VCC (power) "VCC. Connect to 3.3 V power source.", 41 GND (power) "Ground.", 43 VCC (power) "VCC. Connect to 3.3 V power source.", 53 GND (power) "Ground.", 55 VCC (power) "VCC. Connect to 3.3 V power source.", 56 GND (power) "Ground.", 57 EP

## CY7C68013A-56LTXCT
designator U?
EZ-USB(R) FX2LP(TM) USB Microcontroller High-Speed USB Peripheral Controller, 16 KB, 24 I/Os, 3 to 3.6 V, 0 to 70 degC, 56-Pin QFN (LTX56), Tape and Reel; Manufacturer: Cypress; PartNumber: CY7C68013A-56LTXCT; Max. Operating Voltage (V): 3.6; Memory Architecture: RAM; Memory Size (KB): 16; Min. Operating Voltage (V): 3; No. of I/Os: 24; Populated: Yes; DatasheetVersion: Rev. *W; PackageVersion: Rev. *D; PackageReference: LTX56; PackageDescription: 56-Pin Sawn QFN, Body 8 x 8 mm, Pitch 0.5 mm; Supplier 1: Digi-Key; Supplier Part Number 1: CY7C68013A-56LTXCT-ND; CPU Core: Enhanced 8051; Max. Operating Temp. (degreesC): 70; Min. Operating Temp. (degreesC): 0; Packing: Tape and Reel; RoHS: Pb-Free; Mounting Technology: Surface Mount; Code_JEDEC: MO-220; ComponentLink1Description: Manufacturer URL; ComponentLink1URL: http://www.cypress.com/; ComponentLink2Description: Datasheet; ComponentLink2URL: http://www.cypress.com/?docID=45142; ComponentLink3Description: Package Specification; ComponentLink3URL: http://www.cypress.com/?docID=47572
footprint CYP-LTX56-5200X4500TP_N (QFN, 56-Leads, Body 8.1x8.1mm, Pitch 0.5mm, Thermal Pad 5.2x4.5mm, IPC Medium Density)
footprint CYP-LTX56-5200X4500TP_L (QFN, 56-Leads, Body 8.1x8.1mm, Pitch 0.5mm, Thermal Pad 5.2x4.5mm, IPC High Density)
footprint CYP-LTX56-5200X4500TP_M (QFN, 56-Leads, Body 8.1x8.1mm, Pitch 0.5mm, Thermal Pad 5.2x4.5mm, IPC Low Density)
part A pins: 18 PB0/FD0 (io), 19 PB1/FD1 (io), 20 PB2/FD2 (io), 21 PB3/FD3 (io), 22 PB4/FD4 (io), 23 PB5/FD5 (io), 24 PB6/FD6 (io), 25 PB7/FD7 (io), 33 PA0/INT0# (io), 34 PA1/INT1# (io), 35 PA2/SLOE (io), 36 PA3/WU2 (io), 37 PA4/FIFOADR0 (io), 38 PA5/FIFOADR1 (io), 39 PA6/PKTEND (io), 40 PA7/FLAGD/SLCS# (io), 45 PD0/FD8 (io), 46 PD1/FD9 (io), 47 PD2/FD10 (io), 48 PD3/FD11 (io), 49 PD4/FD12 (io), 50 PD5/FD13 (io), 51 PD6/FD14 (io), 52 PD7/FD15 (io)
part B pins: 1 RDY0/SLRD (in), 2 RDY1/SLWR (in), 4 XTALOUT "Crystal Output. Connect this signal to a 24 MHz parallel-resonant, fundamental mode crystal and load capacitor to GND.If an external clock is used to drive XTALIN, leave this pin open.", 5 XTALIN (in) "Crystal Input. Connect this signal to a 24 MHz parallel-resonant, fundamental mode crystal and load capacitor to GND. It is also correct to drive XTALIN with an external 24-MHz square wave derived from another clock source. (See Datasheet)", 8 DPLUS (io) "USB D+ Signal. Connect to the USB D+ signal", 9 DMINUS (io) "USB D- Signal. Connect to the USB D- signal.", 13 IFCLK (io) "Interface Clock, used for synchronously clocking data into or out of the slave FIFOs. IFCLK also serves as a timing reference for all slave FIFO control signals and GPIF. When internal clocking is used (IFCONFIG.7 = 1) the (See Datasheet)", 15 SCL (io) "Clock for the I2C interface. Connect to VCC with a 2.2K resistor, even if no I2C peripheral is attached.", 16 SDA (io) "Data for I2C compatible interface. Connect to VCC with a 2.2K resistor, even if no I2C compatible peripheral is attached.", 29 CTL0/FLAGA (hiz), 30 CTL1/FLAGB (hiz), 31 CTL2/FLAGC (hiz), 42 RESET# (in) "Active LOW Reset. Resets the entire chip. See section 2.9 ”Reset and Wakeup?on page 8 for more details.", 44 WAKEUP (in), 54 CLKOUT (hiz) "12-, 24- or 48 MHz clock, phase locked to the 24 MHz input clock. The 8051 defaults to 12 MHz operation. The 8051 may three-state this output by setting CPUCS.1 = 1."
part C pins: 3 AVCC (power) "Analog VCC. Connect this pin to 3.3V power source. This signal provides power to the analog section of the chip.", 6 AGND (power) "Analog Ground. Connect to ground with as short a path as possible.", 7 AVCC (power) "Analog VCC. Connect this pin to 3.3V power source. This signal provides power to the analog section of the chip.", 10 AGND (power) "Analog Ground. Connect to ground with as short a path as possible.", 11 VCC (power) "VCC. Connect to 3.3 V power source.", 12 GND (power) "Ground.", 14 RESERVED (power) "Reserved. Connect to ground.", 17 VCC (power) "VCC. Connect to 3.3 V power source.", 26 GND (power) "Ground.", 27 VCC (power) "VCC. Connect to 3.3 V power source.", 28 GND (power) "Ground.", 32 VCC (power) "VCC. Connect to 3.3 V power source.", 41 GND (power) "Ground.", 43 VCC (power) "VCC. Connect to 3.3 V power source.", 53 GND (power) "Ground.", 55 VCC (power) "VCC. Connect to 3.3 V power source.", 56 GND (power) "Ground.", 57 EP

## CY7C68013A-56LTXI
designator U?
EZ-USB(R) FX2LP(TM) USB Microcontroller High-Speed USB Peripheral Controller, 16 KB, 24 I/Os, 3 to 3.6 V, -40 to 85 degC, 56-Pin QFN (LTX56), Tray; Manufacturer: Cypress; PartNumber: CY7C68013A-56LTXI; Max. Operating Voltage (V): 3.6; Memory Architecture: RAM; Memory Size (KB): 16; Min. Operating Voltage (V): 3; No. of I/Os: 24; Populated: Yes; DatasheetVersion: Rev. *W; PackageVersion: Rev. *D; PackageReference: LTX56; PackageDescription: 56-Pin Sawn QFN, Body 8 x 8 mm, Pitch 0.5 mm; Supplier 1: Digi-Key; Supplier Part Number 1: CY7C68013A-56LTXI-ND; CPU Core: Enhanced 8051; Max. Operating Temp. (degreesC): 85; Min. Operating Temp. (degreesC): -40; Packing: Tray; RoHS: Pb-Free; Mounting Technology: Surface Mount; Code_JEDEC: MO-220; ComponentLink1Description: Manufacturer URL; ComponentLink1URL: http://www.cypress.com/; ComponentLink2Description: Datasheet; ComponentLink2URL: http://www.cypress.com/?docID=45142; ComponentLink3Description: Package Specification; ComponentLink3URL: http://www.cypress.com/?docID=47572
footprint CYP-LTX56-5200X4500TP_N (QFN, 56-Leads, Body 8.1x8.1mm, Pitch 0.5mm, Thermal Pad 5.2x4.5mm, IPC Medium Density)
footprint CYP-LTX56-5200X4500TP_L (QFN, 56-Leads, Body 8.1x8.1mm, Pitch 0.5mm, Thermal Pad 5.2x4.5mm, IPC High Density)
footprint CYP-LTX56-5200X4500TP_M (QFN, 56-Leads, Body 8.1x8.1mm, Pitch 0.5mm, Thermal Pad 5.2x4.5mm, IPC Low Density)
part A pins: 18 PB0/FD0 (io), 19 PB1/FD1 (io), 20 PB2/FD2 (io), 21 PB3/FD3 (io), 22 PB4/FD4 (io), 23 PB5/FD5 (io), 24 PB6/FD6 (io), 25 PB7/FD7 (io), 33 PA0/INT0# (io), 34 PA1/INT1# (io), 35 PA2/SLOE (io), 36 PA3/WU2 (io), 37 PA4/FIFOADR0 (io), 38 PA5/FIFOADR1 (io), 39 PA6/PKTEND (io), 40 PA7/FLAGD/SLCS# (io), 45 PD0/FD8 (io), 46 PD1/FD9 (io), 47 PD2/FD10 (io), 48 PD3/FD11 (io), 49 PD4/FD12 (io), 50 PD5/FD13 (io), 51 PD6/FD14 (io), 52 PD7/FD15 (io)
part B pins: 1 RDY0/SLRD (in), 2 RDY1/SLWR (in), 4 XTALOUT "Crystal Output. Connect this signal to a 24 MHz parallel-resonant, fundamental mode crystal and load capacitor to GND.If an external clock is used to drive XTALIN, leave this pin open.", 5 XTALIN (in) "Crystal Input. Connect this signal to a 24 MHz parallel-resonant, fundamental mode crystal and load capacitor to GND. It is also correct to drive XTALIN with an external 24-MHz square wave derived from another clock source. (See Datasheet)", 8 DPLUS (io) "USB D+ Signal. Connect to the USB D+ signal", 9 DMINUS (io) "USB D- Signal. Connect to the USB D- signal.", 13 IFCLK (io) "Interface Clock, used for synchronously clocking data into or out of the slave FIFOs. IFCLK also serves as a timing reference for all slave FIFO control signals and GPIF. When internal clocking is used (IFCONFIG.7 = 1) the (See Datasheet)", 15 SCL (io) "Clock for the I2C interface. Connect to VCC with a 2.2K resistor, even if no I2C peripheral is attached.", 16 SDA (io) "Data for I2C compatible interface. Connect to VCC with a 2.2K resistor, even if no I2C compatible peripheral is attached.", 29 CTL0/FLAGA (hiz), 30 CTL1/FLAGB (hiz), 31 CTL2/FLAGC (hiz), 42 RESET# (in) "Active LOW Reset. Resets the entire chip. See section 2.9 ”Reset and Wakeup?on page 8 for more details.", 44 WAKEUP (in), 54 CLKOUT (hiz) "12-, 24- or 48 MHz clock, phase locked to the 24 MHz input clock. The 8051 defaults to 12 MHz operation. The 8051 may three-state this output by setting CPUCS.1 = 1."
part C pins: 3 AVCC (power) "Analog VCC. Connect this pin to 3.3V power source. This signal provides power to the analog section of the chip.", 6 AGND (power) "Analog Ground. Connect to ground with as short a path as possible.", 7 AVCC (power) "Analog VCC. Connect this pin to 3.3V power source. This signal provides power to the analog section of the chip.", 10 AGND (power) "Analog Ground. Connect to ground with as short a path as possible.", 11 VCC (power) "VCC. Connect to 3.3 V power source.", 12 GND (power) "Ground.", 14 RESERVED (power) "Reserved. Connect to ground.", 17 VCC (power) "VCC. Connect to 3.3 V power source.", 26 GND (power) "Ground.", 27 VCC (power) "VCC. Connect to 3.3 V power source.", 28 GND (power) "Ground.", 32 VCC (power) "VCC. Connect to 3.3 V power source.", 41 GND (power) "Ground.", 43 VCC (power) "VCC. Connect to 3.3 V power source.", 53 GND (power) "Ground.", 55 VCC (power) "VCC. Connect to 3.3 V power source.", 56 GND (power) "Ground.", 57 EP

## CY7C68013A-56PVXC
designator U?
EZ-USB(R) FX2LP(TM) USB Microcontroller High-Speed USB Peripheral Controller, 16 KB, 24 I/Os, 3 to 3.6 V, 0 to 70 degC, 56-Pin SSOP (PVX56), Tube; Manufacturer: Cypress; PartNumber: CY7C68013A-56PVXC; Max. Operating Voltage (V): 3.6; Memory Architecture: RAM; Memory Size (KB): 16; Min. Operating Voltage (V): 3; No. of I/Os: 24; Populated: Yes; DatasheetVersion: Rev. *W; PackageVersion: Rev. *F, 08/2012; PackageReference: PVX56; PackageDescription: 56-Pin Shrunk Small Outline Package, Body 7.506 x 18.415 mm, Pitch 0.635 mm; Supplier 1: Digi-Key; Supplier Part Number 1: 428-1627-ND; CPU Core: Enhanced 8051; Max. Operating Temp. (degreesC): 70; Min. Operating Temp. (degreesC): 0; Packing: Tube; RoHS: Pb-Free; Mounting Technology: Surface Mount; ComponentLink1Description: Manufacturer URL; ComponentLink1URL: http://www.cypress.com/; ComponentLink2Description: Datasheet; ComponentLink2URL: http://www.cypress.com/?docID=45142; ComponentLink3Description: Package Specification; ComponentLink3URL: http://www.cypress.com/?docID=39259
footprint CYP-PVX56_N (SOP, 56-Leads, Body 18.415x7.506mm, Pitch 0.635mm , IPC Medium Density)
footprint CYP-PVX56_L (SOP, 56-Leads, Body 18.415x7.506mm, Pitch 0.635mm, IPC High Density)
footprint CYP-PVX56_M (SOP, 56-Leads, Body 18.415x7.506mm, Pitch 0.635mm, IPC Low Density)
part A pins: 1 PD5/FD13 (io), 2 PD6/FD14 (io), 3 PD7/FD15 (io), 25 PB0/FD0 (io), 26 PB1/FD1 (io), 27 PB2/FD2 (io), 28 PB3/FD3 (io), 29 PB4/FD4 (io), 30 PB5/FD5 (io), 31 PB6/FD6 (io), 32 PB7/FD7 (io), 40 PA0/INT0# (io), 41 PA1/INT1# (io), 42 PA2/SLOE (io), 43 PA3/WU2 (io), 44 PA4/FIFOADR0 (io), 45 PA5/FIFOADR1 (io), 46 PA6/PKTEND (io), 47 PA7/FLAGD/SLCS# (io), 52 PD0/FD8 (io), 53 PD1/FD9 (io), 54 PD2/FD10 (io), 55 PD3/FD11 (io), 56 PD4/FD12 (io)
part B pins: 5 CLKOUT (hiz) "12-, 24- or 48 MHz clock, phase locked to the 24 MHz input clock. The 8051 defaults to 12 MHz operation. The 8051 may three-state this output by setting CPUCS.1 = 1.", 8 RDY0/SLRD (in), 9 RDY1/SLWR (in), 11 XTALOUT "Crystal Output. Connect this signal to a 24 MHz parallel-resonant, fundamental mode crystal and load capacitor to GND.If an external clock is used to drive XTALIN, leave this pin open.", 12 XTALIN (in) "Crystal Input. Connect this signal to a 24 MHz parallel-resonant, fundamental mode crystal and load capacitor to GND. It is also correct to drive XTALIN with an external 24-MHz square wave derived from another clock source. (See Datasheet)", 15 DPLUS (io) "USB D+ Signal. Connect to the USB D+ signal", 16 DMINUS (io) "USB D- Signal. Connect to the USB D- signal.", 20 IFCLK (io) "Interface Clock, used for synchronously clocking data into or out of the slave FIFOs. IFCLK also serves as a timing reference for all slave FIFO control signals and GPIF. When internal clocking is used (IFCONFIG.7 = 1) the (See Datasheet)", 22 SCL (io) "Clock for the I2C interface. Connect to VCC with a 2.2K resistor, even if no I2C peripheral is attached.", 23 SDA (io) "Data for I2C compatible interface. Connect to VCC with a 2.2K resistor, even if no I2C compatible peripheral is attached.", 36 CTL0/FLAGA (hiz), 37 CTL1/FLAGB (hiz), 38 CTL2/FLAGC (hiz), 49 RESET# (in) "Active LOW Reset. Resets the entire chip. See section 2.9 ¡±Reset and Wakeup¡± on page 8 for more details.", 51 WAKEUP (in) "USB Wakeup. If the 8051 is in suspend, asserting this pin starts up the oscillator and interrupts the 8051 to enable it to exit the suspend mode. Holding WAKEUP asserted inhibits the EZ-USBa chip from suspending. This pin(See Datasheet)"
part C pins: 4 GND (power) "Ground.", 6 VCC (power) "VCC. Connect to 3.3 V power source.", 7 GND (power) "Ground.", 10 AVCC (power) "Analog VCC. Connect this pin to 3.3V power source. This signal provides power to the analog section of the chip.", 13 AGND (power) "Analog Ground. Connect to ground with as short a path as possible.", 14 AVCC (power) "Analog VCC. Connect this pin to 3.3V power source. This signal provides power to the analog section of the chip.", 17 AGND (power) "Analog Ground. Connect to ground with as short a path as possible.", 18 VCC (power) "VCC. Connect to 3.3 V power source.", 19 GND (power) "Ground.", 21 RESERVED (power) "Reserved. Connect to ground.", 24 VCC (power) "VCC. Connect to 3.3 V power source.", 33 GND (power) "Ground.", 34 VCC (power) "VCC. Connect to 3.3 V power source.", 35 GND (power) "Ground.", 39 VCC (power) "VCC. Connect to 3.3 V power source.", 48 GND (power) "Ground.", 50 VCC (power) "VCC. Connect to 3.3 V power source."